# Altium schematic symbol library CANBUS.SchLib: 3 symbols
Pins are listed as number, name and electrical type; pins without a type are passive.

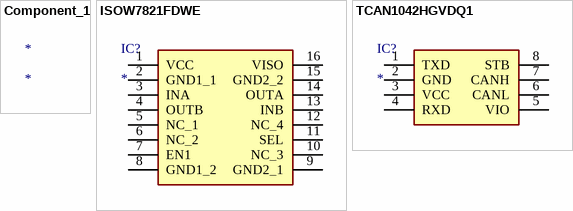
[diagram p0: symbols Component_1 to TCAN1042HGVDQ1]

## Component_1
designator *

## ISOW7821FDWE
designator IC?
Integrated Circuit; Manufacturer_Name: Texas Instruments; Manufacturer_Part_Number: ISOW7821FDWE; Description: High-efficiency; Datasheet Link: http://www.ti.com/lit/ds/symlink/isow7821.pdf; Height: 2.65mm; Mouser Part Number: 595-ISOW7821FDWE; Mouser Price/Stock: https://www.mouser.com/Search/Refine.aspx?Keyword=595-ISOW7821FDWE
footprint SOIC127P1030X265-16N
pins: 1 VCC, 2 GND1_1, 3 INA, 4 OUTB, 5 NC_1, 6 NC_2, 7 EN1, 8 GND1_2, 9 GND2_1, 10 NC_3, 11 SEL, 12 NC_4, 13 INB, 14 OUTA, 15 GND2_2, 16 VISO

## TCAN1042HGVDQ1
designator IC?
Integrated Circuit; Manufacturer_Name: Texas Instruments; Manufacturer_Part_Number: TCAN1042HGVDQ1; Description: Automotive Fault Protected CAN Transceiver With Flexible Data-Rate; Datasheet Link: http://www.ti.com/lit/gpn/tcan1042hgv-q1; Height: 1.75mm; Mouser Part Number: 595-TCAN1042HGVDQ1; Mouser Price/Stock: https://www.mouser.com/Search/Refine.aspx?Keyword=595-TCAN1042HGVDQ1; RS Part Number: 1330710P; RS Price/Stock: http://uk.rs-online.com/web/p/products/1330710P
footprint SOIC127P600X175-8N
pins: 1 TXD, 2 GND (power), 3 VCC (power), 4 RXD, 5 VIO (power), 6 CANL, 7 CANH, 8 STB